# Altium footprint library SL876Q5-A.PcbLib: 1 footprints
Each footprint in its own frame and in the unit in brackets; x right, y up, seen from the top. Pads: shape width x height; smd on the part's side, far side on the other; paste and mask are expansions set on the pad; w line width, h text height; cw(c..) or ccw(c..) is an arc to the next point about the centre after c.
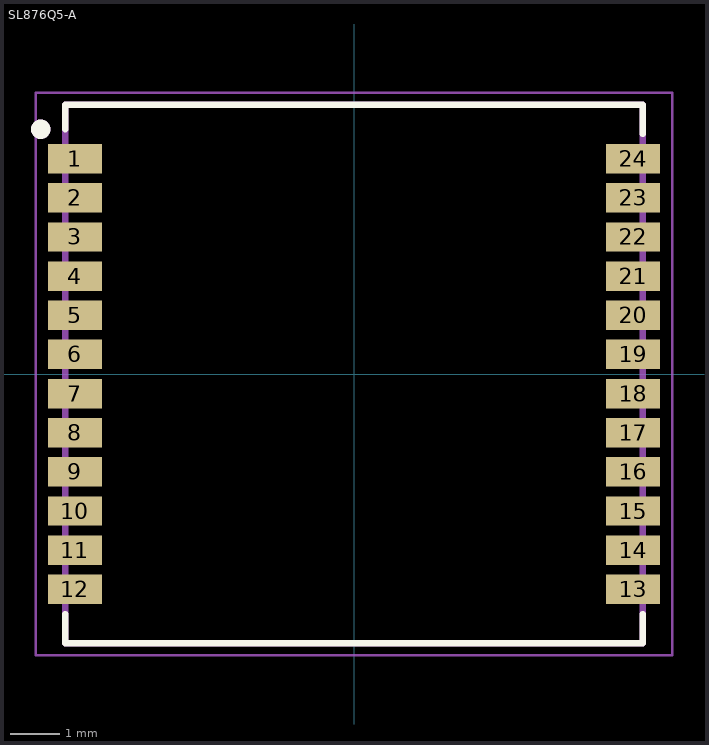
[diagram p0: the footprint, top view; thin cyan lines are the x and y axes]

## SL876Q5-A [mm] "Telit SL876Q5-A"
pads (24):
  rect 1.1x0.6 smd: 1(-5.7,4.4) 2(-5.7,3.6) 3(-5.7,2.8) 4(-5.7,2) 5(-5.7,1.2) 6(-5.7,0.4) 7(-5.7,-0.4) 8(-5.7,-1.2) 9(-5.7,-2) 10(-5.7,-2.8) 11(-5.7,-3.6) 12(-5.7,-4.4) 13(5.7,-4.4) 14(5.7,-3.6) 15(5.7,-2.8) 16(5.7,-2) 17(5.7,-1.2) 18(5.7,-0.4) 19(5.7,0.4) 20(5.7,1.2) 21(5.7,2) 22(5.7,2.8) 23(5.7,3.6) 24(5.7,4.4)
Top Overlay:
  circle w0.2: c-6.4,5 r0.1
  lines w0.127: -5.9,-4.9 -5.9,-5.5 5.9,-5.5 5.9,-4.9 ; -5.9,5 -5.9,5.5 5.9,5.5 5.9,4.9
Mechanical 1:
  circle w0.2: c-6.4,5 r0.1
  lines w0.05: -6.5,-5.75 6.5,-5.75 6.5,5.75 -6.5,5.75 -6.5,-5.75
  lines w0.127: -5.9,-5.5 5.9,-5.5 5.9,5.5 -5.9,5.5 -5.9,-5.5
3D body: height 2.3, standoff 0, extent -5.9,-5.5 6,5.5